# Altium footprint library CHIP.PcbLib: 62 footprints (part 1 of 4)
Each footprint in its own frame and in the unit in brackets; x right, y up, seen from the top. Pads: shape width x height; smd on the part's side, far side on the other; paste and mask are expansions set on the pad; w line width, h text height; cw(c..) or ccw(c..) is an arc to the next point about the centre after c.
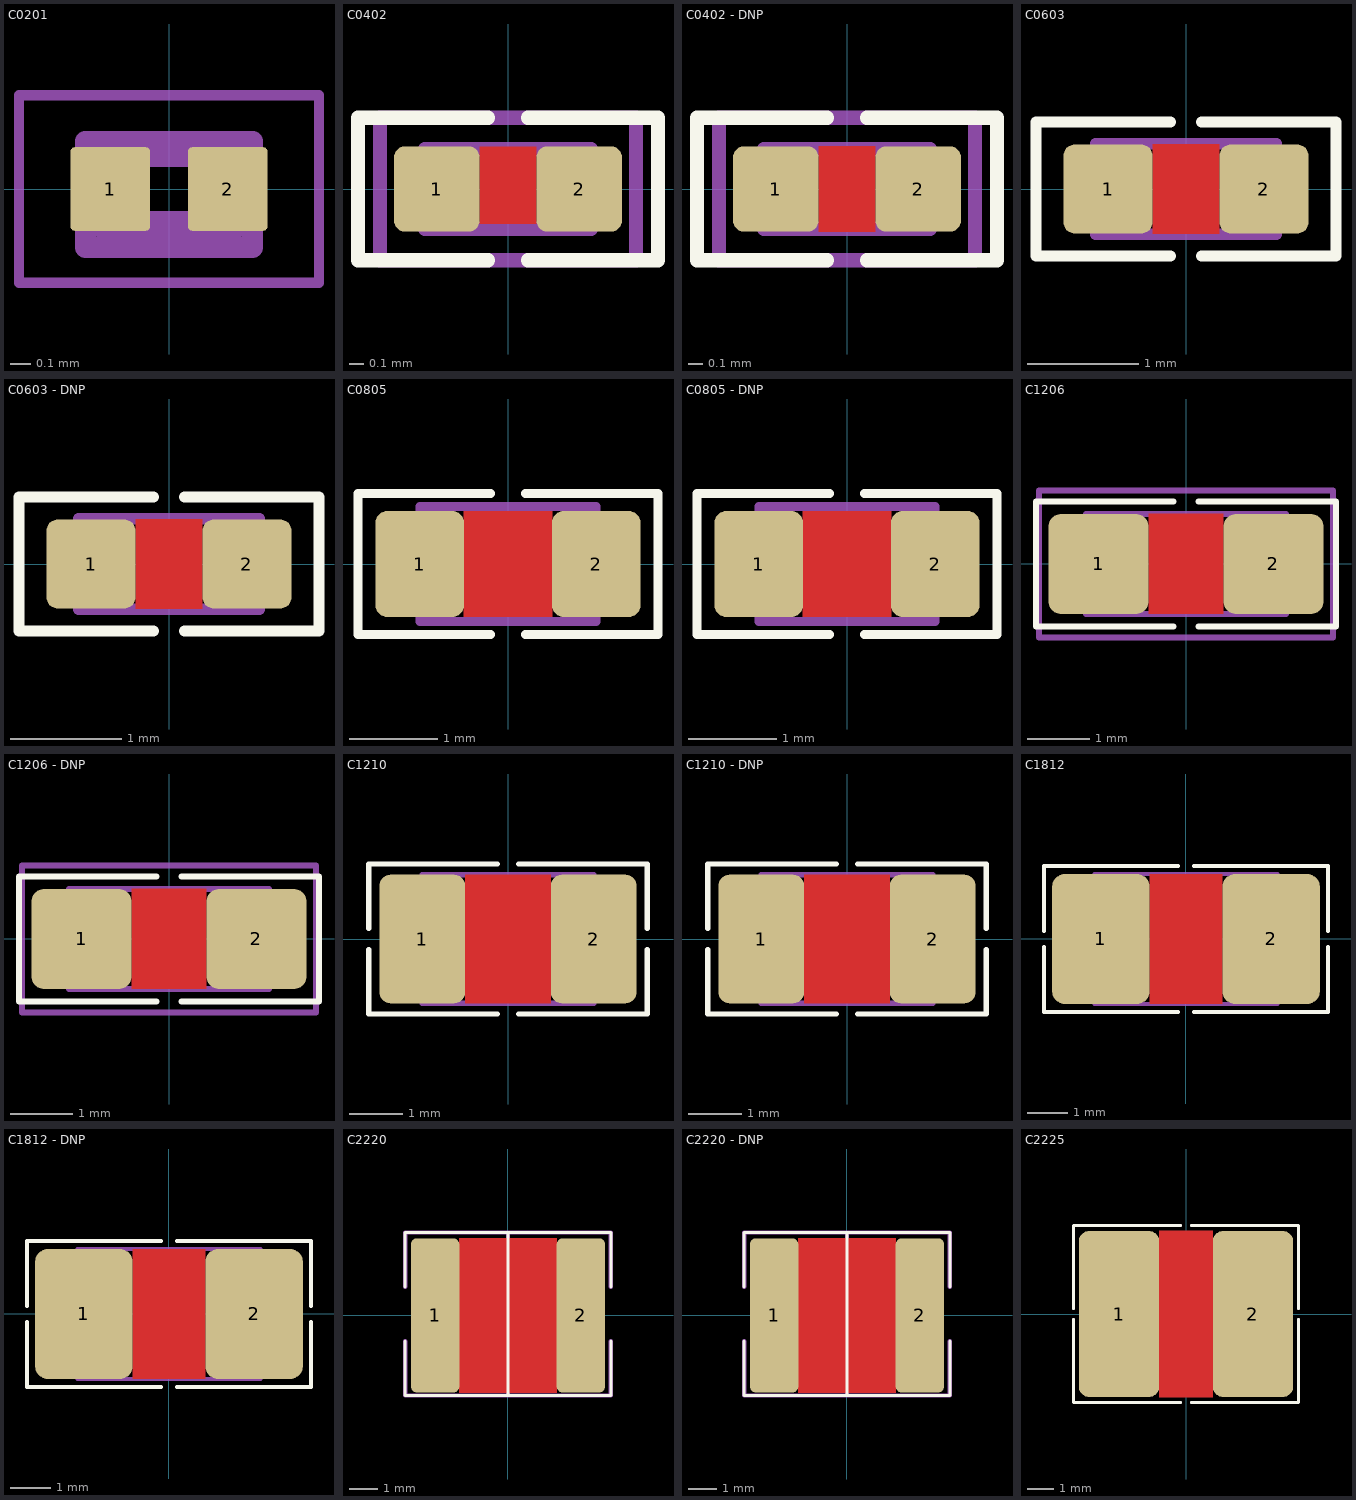
[diagram p0: the footprints below, top view; thin cyan lines are the x and y axes]

## C0201 [mm]
pads (2):
  rrect10% 0.38x0.4 smd: 1(-0.281,0) 2(0.281,0)
Mechanical 13:
  lines w0.127: -0.32,-0.17 -0.32,0.17 0.32,0.17 0.32,-0.17 -0.32,-0.17
Mechanical 15:
  lines w0.05: -0.718,-0.448 -0.718,0.448 0.718,0.448 0.718,-0.448 -0.718,-0.448
Mechanical 29:
  lines w0.1: -0.4,-0.279 -0.4,0.229 0.4,0.229 0.4,-0.279 -0.4,-0.279
  text "'.Designator'" at -0.483,-0.045 h0.2
3D body "step_temp.STEP": height 0.3, standoff 0, extent -0.3,-0.15 0.3,0.15

## C0402 [mm] "CHIP Capacitor, 1.0X0.5mm, 0402"
height 0.4
pads (2):
  rrect25% 0.6x0.6 smd mask+0.075: 1(-0.5,0) 2(0.5,0)
Top Layer:
  pour cut-out: -0.2,0.296 0.2,0.296 0.2,-0.246 -0.2,-0.246
Top Overlay:
  lines w0.1: -0.14,-0.5 -1.054,-0.5 -1.054,0.5 -0.14,0.5 ; 0.14,-0.5 1.054,-0.5 1.054,0.5 0.14,0.5
Mechanical 15:
  lines w0.1: -0.9,-0.5 0.9,-0.5 0.9,0.5 -0.9,0.5 -0.9,-0.5
Mechanical 29:
  lines w0.1: -0.584,-0.279 -0.584,0.279 0.584,0.279 0.584,-0.279 -0.584,-0.279
  text "'.Designator'" at -0.615,-0.058 h0.25
3D body "User Library-0402C.step": height 0.36, standoff 0, extent -0.5,-0.265 0.5,0.265

## C0402 - DNP [mm] "CHIP Capacitor, 1.0X0.5mm, 0402"
height 0.4
pads (2):
  rrect25% 0.6x0.6 smd mask+0.075: 1(-0.5,0) 2(0.5,0)
Top Layer:
  pour cut-out: -0.2,0.3 0.2,0.3 0.2,-0.3 -0.2,-0.3
Top Overlay:
  lines w0.1: -0.14,-0.5 -1.054,-0.5 -1.054,0.5 -0.14,0.5 ; 0.14,-0.5 1.054,-0.5 1.054,0.5 0.14,0.5
Mechanical 15:
  lines w0.1: -0.9,-0.5 0.9,-0.5 0.9,0.5 -0.9,0.5 -0.9,-0.5
Mechanical 29:
  lines w0.1: -0.584,-0.279 -0.584,0.279 0.584,0.279 0.584,-0.279 -0.584,-0.279

## C0603 [mm] "CHIP Capacitor, 1.6X0.8mm, 0603 OPTIMIZED"
height 0.6
pads (2):
  rrect25% 0.8x0.8 smd mask+0.075: 1(-0.7,0) 2(0.7,0)
Top Layer:
  pour cut-out: -0.3,0.4 0.3,0.4 0.3,-0.4 -0.3,-0.4
Top Overlay:
  lines w0.1: -0.14,-0.6 -1.346,-0.6 -1.346,0.6 -0.14,0.6 ; 0.14,-0.6 1.346,-0.6 1.346,0.6 0.14,0.6
Mechanical 29:
  lines w0.1: -0.813,-0.406 -0.813,0.406 0.813,0.406 0.813,-0.406 -0.813,-0.406
  text "'.Designator'" at -0.737,-0.095 h0.3
3D body "User Library-CAPC1608X09.step": height 0.9, standoff 0, extent -0.8,-0.4 0.8,0.4

## C0603 - DNP [mm] "CHIP Capacitor, 1.6X0.8mm, 0603 OPTIMIZED"
height 0.6
pads (2):
  rrect25% 0.8x0.8 smd mask+0.075: 1(-0.7,0) 2(0.7,0)
Top Layer:
  pour cut-out: -0.3,0.4 0.3,0.4 0.3,-0.4 -0.3,-0.4
Top Overlay:
  lines w0.1: -0.14,-0.6 -1.346,-0.6 -1.346,0.6 -0.14,0.6 ; 0.14,-0.6 1.346,-0.6 1.346,0.6 0.14,0.6
Mechanical 29:
  lines w0.1: -0.813,-0.406 -0.813,0.406 0.813,0.406 0.813,-0.406 -0.813,-0.406

## C0805 [mm] "CHIP Capacitor, 2.0X1.3mm, 0805"
pads (2):
  rrect25% 1x1.2 smd mask+0.075: 1(-1,0) 2(1,0)
Top Layer:
  pour cut-out: -0.5,0.6 0.5,0.6 0.5,-0.6 -0.5,-0.6
Top Overlay:
  lines w0.1: -0.2,-0.8 -1.7,-0.8 -1.7,0.8 -0.2,0.8 ; 0.2,-0.8 1.7,-0.8 1.7,0.8 0.2,0.8
Mechanical 29:
  lines w0.1: -1,-0.65 1,-0.65 1,0.65 -1,0.65 -1,-0.65
  text "'.Designator'" at -0.916,-0.119 h0.38
3D body "User Library-CAPC2013X10.step": height 1, standoff 0, extent -1,-0.625 1,0.625

## C0805 - DNP [mm] "CHIP Capacitor, 2.0X1.3mm, 0805"
pads (2):
  rrect25% 1x1.2 smd mask+0.075: 1(-1,0) 2(1,0)
Top Layer:
  pour cut-out: -0.5,0.6 0.5,0.6 0.5,-0.6 -0.5,-0.6
Top Overlay:
  lines w0.1: -0.2,-0.8 -1.7,-0.8 -1.7,0.8 -0.2,0.8 ; 0.2,-0.8 1.7,-0.8 1.7,0.8 0.2,0.8
Mechanical 29:
  lines w0.1: -1,-0.65 -1,0.65 1,0.65 1,-0.65 -1,-0.65

## C1206 [mm] "CHIP Capacitor, 3.2X1.6mm, 1206"
height 2
pads (2):
  rrect25% 1.6x1.6 smd mask+0.075: 1(-1.4,0) 2(1.4,0)
Top Layer:
  pour cut-out: -0.6,0.8 -0.6,-0.8 0.6,-0.8 0.6,0.8
Top Overlay:
  lines w0.1: -0.2,-1 -2.4,-1 -2.4,1 -0.2,1 ; 0.2,-1 2.4,-1 2.4,1 0.2,1
Mechanical 15:
  lines w0.1: -0.5,0 0.5,0 ; 0,-0.5 0,0.5 ; -2.35,-1.175 -2.35,1.175 2.35,1.175 2.35,-1.175 -2.35,-1.175
Mechanical 29:
  lines w0.1: -1.6,-0.8 -1.6,0.8 1.6,0.8 1.6,-0.8 -1.6,-0.8
  text "'.Designator'" at -1.229,-0.159 h0.51
3D body "User Library-CAPC3216X10.step": height 1, standoff 0, extent -1.6,-0.8 1.6,0.8

## C1206 - DNP [mm] "CHIP Capacitor, 3.2X1.6mm, 1206"
height 2
pads (2):
  rrect25% 1.6x1.6 smd mask+0.075: 1(-1.4,0) 2(1.4,0)
Top Layer:
  pour cut-out: -0.6,0.8 -0.6,-0.8 0.6,-0.8 0.6,0.8
Top Overlay:
  lines w0.1: -0.2,-1 -2.4,-1 -2.4,1 -0.2,1 ; 0.2,-1 2.4,-1 2.4,1 0.2,1
Mechanical 15:
  lines w0.1: -0.5,0 0.5,0 ; 0,-0.5 0,0.5 ; -2.35,-1.175 -2.35,1.175 2.35,1.175 2.35,-1.175 -2.35,-1.175
Mechanical 29:
  lines w0.1: -1.6,-0.8 -1.6,0.8 1.6,0.8 1.6,-0.8 -1.6,-0.8

## C1210 [mm] "CHIP Capacitor, 3.2X2.5mm, 1210, 3225"
pads (2):
  rrect25% 1.6x2.4 smd mask+0.075: 1(-1.6,0) 2(1.6,0)
Top Layer:
  pour cut-out: -0.8,1.2 -0.8,-1.2 0.8,-1.2 0.8,1.2
Top Overlay:
  lines w0.1: -2.6,-0.2 -2.6,-1.4 -0.2,-1.4 ; -2.6,0.2 -2.6,1.4 -0.2,1.4 ; 0.2,-1.4 2.6,-1.4 2.6,-0.2 ; 0.2,1.4 2.6,1.4 2.6,0.2
Mechanical 29:
  lines w0.1: -1.6,-1.2 1.6,-1.2 1.6,1.2 -1.6,1.2 -1.6,-1.2
  text "'.Designator'" at -1.229,-0.159 h0.51
3D body "User Library-CAPC3225X10.step": height 1, standoff 0, extent -1.6,-1.25 1.6,1.25

## C1210 - DNP [mm] "CHIP Capacitor, 3.2X2.5mm, 1210, 3225"
pads (2):
  rrect25% 1.6x2.4 smd mask+0.075: 1(-1.6,0) 2(1.6,0)
Top Layer:
  pour cut-out: -0.8,1.2 -0.8,-1.2 0.8,-1.2 0.8,1.2
Top Overlay:
  lines w0.1: -2.6,-0.2 -2.6,-1.4 -0.2,-1.4 ; -2.6,0.2 -2.6,1.4 -0.2,1.4 ; 0.2,-1.4 2.6,-1.4 2.6,-0.2 ; 0.2,1.4 2.6,1.4 2.6,0.2
Mechanical 29:
  lines w0.1: -1.6,-1.2 1.6,-1.2 1.6,1.2 -1.6,1.2 -1.6,-1.2

## C1812 [mm] "Chip Capacitor, 4.5x3.2mm, 1612, 1812, 4532"
height 2.5
pads (2):
  rrect25% 2.4x3.2 smd mask+0.075: 1(-2.1,0) 2(2.1,0)
Top Layer:
  pour cut-out: -0.9,1.6 -0.9,-1.6 0.9,-1.6 0.9,1.6
Top Overlay:
  lines w0.1: -3.5,-0.2 -3.5,-1.8 -0.2,-1.8 ; -3.5,0.2 -3.5,1.8 -0.2,1.8 ; 0.2,-1.8 3.5,-1.8 3.5,-0.2 ; 0.2,1.8 3.5,1.8 3.5,0.2
Mechanical 29:
  lines w0.1: -2.261,-1.6 2.261,-1.6 2.261,1.6 -2.261,1.6 -2.261,-1.6
  text "'.Designator'" at -1.84,-0.238 h0.76
3D body "User Library-Chip Cap_MLCC_1812 4532)_M.step": height 2.5, standoff 0, extent -2.25,-1.6 2.25,1.6

## C1812 - DNP [mm] "Chip Capacitor, 4.5x3.2mm, 1612, 1812, 4532"
height 2.5
pads (2):
  rrect25% 2.4x3.2 smd mask+0.075: 1(-2.1,0) 2(2.1,0)
Top Layer:
  pour cut-out: -0.9,1.6 -0.9,-1.6 0.9,-1.6 0.9,1.6
Top Overlay:
  lines w0.1: -3.5,-0.2 -3.5,-1.8 -0.2,-1.8 ; -3.5,0.2 -3.5,1.8 -0.2,1.8 ; 0.2,-1.8 3.5,-1.8 3.5,-0.2 ; 0.2,1.8 3.5,1.8 3.5,0.2
Mechanical 29:
  lines w0.1: -2.261,-1.6 2.261,-1.6 2.261,1.6 -2.261,1.6 -2.261,-1.6

## C2220 [mm]
pads (2):
  rrect25% 1.7x5.4 smd: 1(-2.55,0) 2(2.55,0)
Top Layer:
  pour cut-out: -1.7,2.7 -1.7,-2.7 1.7,-2.7 1.7,2.7
Top Overlay:
  lines w0.1: -3.6,-0.9 -3.6,-2.8 3.6,-2.8 3.6,-0.9 ; -3.6,1 -3.6,2.9 3.6,2.9 3.6,1 ; 0,-2.8 0,2.9
Mechanical 15:
  lines w0.1: -0.3,0 0.3,0 ; 0,-0.3 0,0.3
Mechanical 29:
  lines w0.15: -3.6,-0.9 -3.6,-2.8 3.6,-2.8 3.6,-0.9 ; -3.6,1 -3.6,2.9 3.6,2.9 3.6,1 ; 0,-2.8 0,2.9
3D body "CAP 2020-3.0mm.STEP": height 3, standoff 0, extent -2.85,-2.5 2.85,2.5

## C2220 - DNP [mm]
pads (2):
  rrect25% 1.7x5.4 smd: 1(-2.55,0) 2(2.55,0)
Top Layer:
  pour cut-out: -1.7,2.7 -1.7,-2.7 1.7,-2.7 1.7,2.7
Top Overlay:
  lines w0.1: -3.6,-0.9 -3.6,-2.8 3.6,-2.8 3.6,-0.9 ; -3.6,1 -3.6,2.9 3.6,2.9 3.6,1 ; 0,-2.8 0,2.9
Mechanical 15:
  lines w0.1: -0.3,0 0.3,0 ; 0,-0.3 0,0.3
Mechanical 29:
  lines w0.15: -3.6,-0.9 -3.6,-2.8 3.6,-2.8 3.6,-0.9 ; -3.6,1 -3.6,2.9 3.6,2.9 3.6,1 ; 0,-2.8 0,0 0,2.9

## C2225 [mm] "Chip Capacitor, 5.6x6.4mm, 2225, 5664, 2220"
pads (2):
  rrect25% 3x6.2 smd: 1(-2.5,0) 2(2.5,0)
Top Layer:
  pour cut-out: -1,3.1 1,3.1 1,-3.1 -1,-3.1
Top Overlay:
  lines w0.1: -4.2,-0.2 -4.2,-3.302 -0.2,-3.302 ; -4.2,0.2 -4.2,3.302 -0.2,3.302 ; 0.2,-3.302 4.2,-3.302 4.2,-0.2 ; 0.2,3.302 4.2,3.302 4.2,0.2
3D body "User Library-2225(inch)_(5664x14metric).step": height 1.4, standoff 0, extent -2.8,-3.2 2.8,3.2